# Altium footprint library ZMBo Footprint Library.PcbLib: 76 footprints (part 3 of 5)
Each footprint in its own frame and in the unit in brackets; x right, y up, seen from the top. Pads: shape width x height; smd on the part's side, far side on the other; paste and mask are expansions set on the pad; w line width, h text height; cw(c..) or ccw(c..) is an arc to the next point about the centre after c.
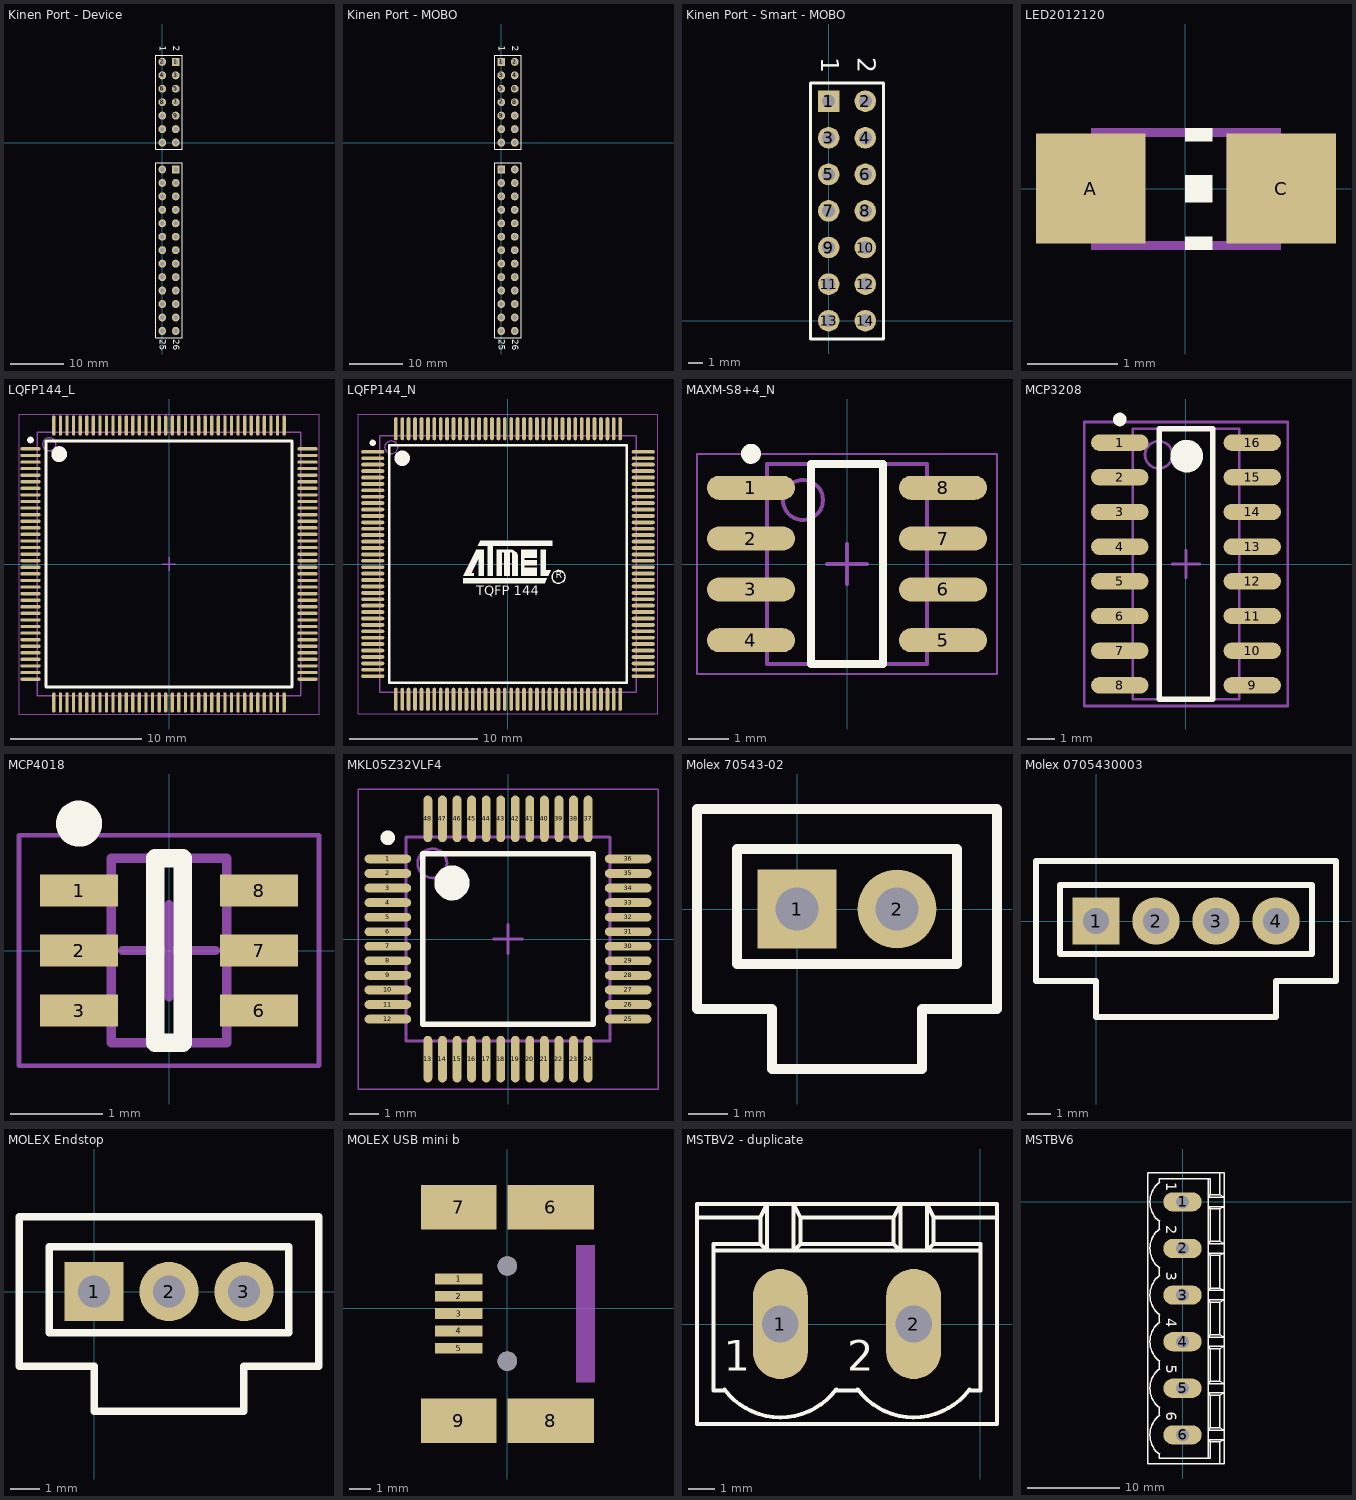
[diagram p2: the footprints below, top view; thin cyan lines are the x and y axes]

## Kinen Port - Device [mm] "Synthetos Kinen Expansion Port Socket"
pads (40):
  rect 1.5x1.5 hole 0.9: 1(2.54,15.24) 15(2.54,-5.08)
  round 1.5 hole 0.9: 2(0,15.24) 3(2.54,12.7) 4(0,12.7) 5(2.54,10.16) 6(0,10.16) 7(2.54,7.62) 8(0,7.62) 9(2.54,5.08) 10(0,5.08) 11(2.54,2.54) 12(0,2.54) 13(2.54,0) 14(0,0) 16(0,-5.08) 17(2.54,-7.62) 18(0,-7.62) 19(2.54,-10.16) 20(0,-10.16) 21(2.54,-12.7) 22(0,-12.7) 23(2.54,-15.24) 24(0,-15.24) 25(2.54,-17.78) 26(0,-17.78) 27(2.54,-20.32) 28(0,-20.32) 29(2.54,-22.86) 30(0,-22.86) 31(2.54,-25.4) 32(0,-25.4) 33(2.54,-27.94) 34(0,-27.94) 35(2.54,-30.48) 36(0,-30.48) 37(2.54,-33.02) 38(0,-33.02) 39(2.54,-35.56) 40(0,-35.56)
Top Overlay:
  lines w0.2: -1.27,-36.83 -1.27,-3.81 3.81,-3.81 3.81,-36.83 -1.27,-36.83 ; -1.27,-1.27 -1.27,16.51 3.81,16.51 3.81,-1.27 -1.27,-1.27
  text "1" at -0.508,18.288 h1.27
  text "2" at 2.032,18.288 h1.27
  text "26" at 2.032,-37.084 h1.27
  text "25" at -0.508,-37.084 h1.27

## Kinen Port - MOBO [mm] "Synthetos Kinen Expansion Port Socket"
pads (40):
  rect 1.5x1.5 hole 0.9: 1(0,15.24) 15(0,-5.08)
  round 1.5 hole 0.9: 2(2.54,15.24) 3(0,12.7) 4(2.54,12.7) 5(0,10.16) 6(2.54,10.16) 7(0,7.62) 8(2.54,7.62) 9(0,5.08) 10(2.54,5.08) 11(0,2.54) 12(2.54,2.54) 13(0,0) 14(2.54,0) 16(2.54,-5.08) 17(0,-7.62) 18(2.54,-7.62) 19(0,-10.16) 20(2.54,-10.16) 21(0,-12.7) 22(2.54,-12.7) 23(0,-15.24) 24(2.54,-15.24) 25(0,-17.78) 26(2.54,-17.78) 27(0,-20.32) 28(2.54,-20.32) 29(0,-22.86) 30(2.54,-22.86) 31(0,-25.4) 32(2.54,-25.4) 33(0,-27.94) 34(2.54,-27.94) 35(0,-30.48) 36(2.54,-30.48) 37(0,-33.02) 38(2.54,-33.02) 39(0,-35.56) 40(2.54,-35.56)
Top Overlay:
  lines w0.2: -1.27,-36.83 -1.27,-3.81 3.81,-3.81 3.81,-36.83 -1.27,-36.83 ; -1.27,-1.27 -1.27,16.51 3.81,16.51 3.81,-1.27 -1.27,-1.27
  text "1" at -0.508,18.288 h1.27
  text "2" at 2.032,18.288 h1.27
  text "26" at 2.032,-37.084 h1.27
  text "25" at -0.508,-37.084 h1.27

## Kinen Port - Smart - MOBO [mm]
pads (14):
  rect 1.5x1.5 hole 0.9: 1(0,15.24)
  round 1.5 hole 0.9: 2(2.54,15.24) 3(0,12.7) 4(2.54,12.7) 5(0,10.16) 6(2.54,10.16) 7(0,7.62) 8(2.54,7.62) 9(0,5.08) 10(2.54,5.08) 11(0,2.54) 12(2.54,2.54) 13(0,0) 14(2.54,0)
Top Overlay:
  lines w0.2: -1.27,-1.27 -1.27,16.51 3.81,16.51 3.81,-1.27 -1.27,-1.27
  text "1" at -0.508,18.288 h1.27
  text "2" at 2.032,18.288 h1.27

## LED2012120 [mil]
pads (2):
  rect 48x48 smd: A(-41.34,0) C(42,0)
Top Overlay:
  region: 0,26.57 0,20.67 12,20.67 12,26.57
  region: 0,-21 0,-27 12,-27 12,-21
  region: 0,5.9 0,-6 12,-6 12,5.9
Mechanical 8:
  region: 18,26.58 18,-27 42,-27 42,26.58
  region: -41.34,26.58 -41.34,-27 -17.72,-27 -17.72,26.57
  lines w4: -18.7,-25 18,-25 ; -17.72,24.61 18,24.61
3D body: height 15.75, standoff 0, extent 20,-10 35,10
3D body: height 27.56, standoff 0, extent -30,-25 30,25
3D body: height 11.81, standoff 0, extent -50,-25 50,25

## LQFP144_L [mm] "Thin QFP, 144-Leads, Body 20x20mm, Pitch 0.5mm, IPC High Density"
height 1.6
pads (144):
  oval 1.55x0.25 smd: 1(-10.525,8.75) 2(-10.525,8.25) 3(-10.525,7.75) 4(-10.525,7.25) 5(-10.525,6.75) 6(-10.525,6.25) 7(-10.525,5.75) 8(-10.525,5.25) 9(-10.525,4.75) 10(-10.525,4.25) 11(-10.525,3.75) 12(-10.525,3.25) 13(-10.525,2.75) 14(-10.525,2.25) 15(-10.525,1.75) 16(-10.525,1.25) 17(-10.525,0.75) 18(-10.525,0.25) 19(-10.525,-0.25) 20(-10.525,-0.75) 21(-10.525,-1.25) 22(-10.525,-1.75) 23(-10.525,-2.25) 24(-10.525,-2.75) 25(-10.525,-3.25) 26(-10.525,-3.75) 27(-10.525,-4.25) 28(-10.525,-4.75) 29(-10.525,-5.25) 30(-10.525,-5.75) 31(-10.525,-6.25) 32(-10.525,-6.75) 33(-10.525,-7.25) 34(-10.525,-7.75) 35(-10.525,-8.25) 36(-10.525,-8.75) 73(10.525,-8.75) 74(10.525,-8.25) 75(10.525,-7.75) 76(10.525,-7.25) 77(10.525,-6.75) 78(10.525,-6.25) 79(10.525,-5.75) 80(10.525,-5.25) 81(10.525,-4.75) 82(10.525,-4.25) 83(10.525,-3.75) 84(10.525,-3.25) 85(10.525,-2.75) 86(10.525,-2.25) 87(10.525,-1.75) 88(10.525,-1.25) 89(10.525,-0.75) 90(10.525,-0.25) 91(10.525,0.25) 92(10.525,0.75) 93(10.525,1.25) 94(10.525,1.75) 95(10.525,2.25) 96(10.525,2.75) 97(10.525,3.25) 98(10.525,3.75) 99(10.525,4.25) 100(10.525,4.75) 101(10.525,5.25) 102(10.525,5.75) 103(10.525,6.25) 104(10.525,6.75) 105(10.525,7.25) 106(10.525,7.75) 107(10.525,8.25) 108(10.525,8.75)
  oval 0.25x1.55 smd: 37(-8.75,-10.525) 38(-8.25,-10.525) 39(-7.75,-10.525) 40(-7.25,-10.525) 41(-6.75,-10.525) 42(-6.25,-10.525) 43(-5.75,-10.525) 44(-5.25,-10.525) 45(-4.75,-10.525) 46(-4.25,-10.525) 47(-3.75,-10.525) 48(-3.25,-10.525) 49(-2.75,-10.525) 50(-2.25,-10.525) 51(-1.75,-10.525) 52(-1.25,-10.525) 53(-0.75,-10.525) 54(-0.25,-10.525) 55(0.25,-10.525) 56(0.75,-10.525) 57(1.25,-10.525) 58(1.75,-10.525) 59(2.25,-10.525) 60(2.75,-10.525) 61(3.25,-10.525) 62(3.75,-10.525) 63(4.25,-10.525) 64(4.75,-10.525) 65(5.25,-10.525) 66(5.75,-10.525) 67(6.25,-10.525) 68(6.75,-10.525) 69(7.25,-10.525) 70(7.75,-10.525) 71(8.25,-10.525) 72(8.75,-10.525) 109(8.75,10.525) 110(8.25,10.525) 111(7.75,10.525) 112(7.25,10.525) 113(6.75,10.525) 114(6.25,10.525) 115(5.75,10.525) 116(5.25,10.525) 117(4.75,10.525) 118(4.25,10.525) 119(3.75,10.525) 120(3.25,10.525) 121(2.75,10.525) 122(2.25,10.525) 123(1.75,10.525) 124(1.25,10.525) 125(0.75,10.525) 126(0.25,10.525) 127(-0.25,10.525) 128(-0.75,10.525) 129(-1.25,10.525) 130(-1.75,10.525) 131(-2.25,10.525) 132(-2.75,10.525) 133(-3.25,10.525) 134(-3.75,10.525) 135(-4.25,10.525) 136(-4.75,10.525) 137(-5.25,10.525) 138(-5.75,10.525) 139(-6.25,10.525) 140(-6.75,10.525) 141(-7.25,10.525) 142(-7.75,10.525) 143(-8.25,10.525) 144(-8.75,10.525)
Top Overlay:
  circle w0.25: c-10.525,9.425 r0.125
  circle w0.6: c-8.35,8.35 r0.3
  lines w0.2: -9.35,-9.35 -9.35,9.35 9.35,9.35 9.35,-9.35 -9.35,-9.35
Mechanical 13:
  circle w0.1: c-9.1,9.1 r0.5
  lines w0.1: -10,-10 -10,10 10,10 10,-10 -10,-10
Mechanical 15:
  lines w0.05: -11.4,-11.4 -11.4,11.4 11.4,11.4 11.4,-11.4 -11.4,-11.4
  lines w0.1: -0.5,0 0.5,0 ; 0,-0.5 0,0.5
3D body: height 1.6, standoff 0, extent -10,-10 10,10

## LQFP144_N [mm] "Thin QFP, 144-Leads, Body 20x20mm, Pitch 0.5mm, IPC Medium Density"
height 1.6
pads (144):
  oval 1.8x0.3 smd: 1(-10.55,8.75) 2(-10.55,8.25) 3(-10.55,7.75) 4(-10.55,7.25) 5(-10.55,6.75) 6(-10.55,6.25) 7(-10.55,5.75) 8(-10.55,5.25) 9(-10.55,4.75) 10(-10.55,4.25) 11(-10.55,3.75) 12(-10.55,3.25) 13(-10.55,2.75) 14(-10.55,2.25) 15(-10.55,1.75) 16(-10.55,1.25) 17(-10.55,0.75) 18(-10.55,0.25) 19(-10.55,-0.25) 20(-10.55,-0.75) 21(-10.55,-1.25) 22(-10.55,-1.75) 23(-10.55,-2.25) 24(-10.55,-2.75) 25(-10.55,-3.25) 26(-10.55,-3.75) 27(-10.55,-4.25) 28(-10.55,-4.75) 29(-10.55,-5.25) 30(-10.55,-5.75) 31(-10.55,-6.25) 32(-10.55,-6.75) 33(-10.55,-7.25) 34(-10.55,-7.75) 35(-10.55,-8.25) 36(-10.55,-8.75) 73(10.55,-8.75) 74(10.55,-8.25) 75(10.55,-7.75) 76(10.55,-7.25) 77(10.55,-6.75) 78(10.55,-6.25) 79(10.55,-5.75) 80(10.55,-5.25) 81(10.55,-4.75) 82(10.55,-4.25) 83(10.55,-3.75) 84(10.55,-3.25) 85(10.55,-2.75) 86(10.55,-2.25) 87(10.55,-1.75) 88(10.55,-1.25) 89(10.55,-0.75) 90(10.55,-0.25) 91(10.55,0.25) 92(10.55,0.75) 93(10.55,1.25) 94(10.55,1.75) 95(10.55,2.25) 96(10.55,2.75) 97(10.55,3.25) 98(10.55,3.75) 99(10.55,4.25) 100(10.55,4.75) 101(10.55,5.25) 102(10.55,5.75) 103(10.55,6.25) 104(10.55,6.75) 105(10.55,7.25) 106(10.55,7.75) 107(10.55,8.25) 108(10.55,8.75)
  oval 0.3x1.8 smd: 37(-8.75,-10.55) 38(-8.25,-10.55) 39(-7.75,-10.55) 40(-7.25,-10.55) 41(-6.75,-10.55) 42(-6.25,-10.55) 43(-5.75,-10.55) 44(-5.25,-10.55) 45(-4.75,-10.55) 46(-4.25,-10.55) 47(-3.75,-10.55) 48(-3.25,-10.55) 49(-2.75,-10.55) 50(-2.25,-10.55) 51(-1.75,-10.55) 52(-1.25,-10.55) 53(-0.75,-10.55) 54(-0.25,-10.55) 55(0.25,-10.55) 56(0.75,-10.55) 57(1.25,-10.55) 58(1.75,-10.55) 59(2.25,-10.55) 60(2.75,-10.55) 61(3.25,-10.55) 62(3.75,-10.55) 63(4.25,-10.55) 64(4.75,-10.55) 65(5.25,-10.55) 66(5.75,-10.55) 67(6.25,-10.55) 68(6.75,-10.55) 69(7.25,-10.55) 70(7.75,-10.55) 71(8.25,-10.55) 72(8.75,-10.55) 109(8.75,10.55) 110(8.25,10.55) 111(7.75,10.55) 112(7.25,10.55) 113(6.75,10.55) 114(6.25,10.55) 115(5.75,10.55) 116(5.25,10.55) 117(4.75,10.55) 118(4.25,10.55) 119(3.75,10.55) 120(3.25,10.55) 121(2.75,10.55) 122(2.25,10.55) 123(1.75,10.55) 124(1.25,10.55) 125(0.75,10.55) 126(0.25,10.55) 127(-0.25,10.55) 128(-0.75,10.55) 129(-1.25,10.55) 130(-1.75,10.55) 131(-2.25,10.55) 132(-2.75,10.55) 133(-3.25,10.55) 134(-3.75,10.55) 135(-4.25,10.55) 136(-4.75,10.55) 137(-5.25,10.55) 138(-5.75,10.55) 139(-6.25,10.55) 140(-6.75,10.55) 141(-7.25,10.55) 142(-7.75,10.55) 143(-8.25,10.55) 144(-8.75,10.55)
Top Overlay:
  circle w0.102: c3.944,-1.006 r0.508
  circle w0.25: c-10.55,9.45 r0.125
  circle w0.6: c-8.25,8.25 r0.3
  region: -3.473,-0.907 -2.473,1.11 -1.873,1.11 -1.873,-0.907 -2.273,-0.907 -2.273,0.5 -2.873,-0.706 -2.673,-0.706 -2.673,-0.907
  region: -2.373,1.415 -2.173,1.796 3.436,1.796 3.436,1.415 -1.173,1.415 -1.173,-0.907 -1.573,-0.907 -1.573,1.415
  region: -0.873,1.11 -0.873,-0.907 -0.473,-0.907 -0.473,0.907 -0.273,0.907 -0.273,-0.907 0.127,-0.907 0.127,0.907 0.327,0.907 0.327,-0.907 0.744,-0.907 0.744,0.703 0.642,0.907 0.54,1.008 0.327,1.11
  region: 1.048,1.11 1.048,-0.907 2.242,-0.907 2.242,-0.307 1.252,-0.307 1.252,-0.084 2.242,-0.084 2.242,0.297 1.252,0.297 1.252,0.5 2.242,0.5 2.242,1.11
  region: 2.547,1.11 2.547,-0.907 3.131,-0.907 3.334,-0.506 2.928,-0.506 2.928,1.11
  region: -3.473,-1.106 -3.473,-1.506 2.852,-1.506 3.03,-1.106
  lines w0.2: -9.25,-9.25 -9.25,9.25 9.25,9.25 9.25,-9.25 -9.25,-9.25
  text "TQFP 144" at -2.473,-2.717 h1.26
  text "R" at 3.741,-1.307 h0.94
Mechanical 13:
  circle w0.1: c-9.1,9.1 r0.5
  lines w0.1: -10,-10 -10,10 10,10 10,-10 -10,-10
Mechanical 15:
  lines w0.05: -11.7,-11.7 -11.7,11.7 11.7,11.7 11.7,-11.7 -11.7,-11.7
  lines w0.1: -0.5,0 0.5,0 ; 0,-0.5 0,0.5
3D body: height 1.6, standoff 0, extent -10,-10 10,10

## MAXM-S8+4_N [mm] "SOIC, 8-Leads, Body 4.9x3.9mm, Pitch 1.27mm, IPC Medium Density"
height 1.75
pads (8):
  oval 2.2x0.6 smd: 1(-2.4,1.905) 2(-2.4,0.635) 3(-2.4,-0.635) 4(-2.4,-1.905) 5(2.4,-1.905) 6(2.4,-0.635) 7(2.4,0.635) 8(2.4,1.905)
Top Overlay:
  circle w0.25: c-2.4,2.755 r0.125
  lines w0.2: -0.9,-2.5 -0.9,2.5 0.9,2.5 0.9,-2.5 -0.9,-2.5
Mechanical 13:
  circle w0.1: c-1.1,1.6 r0.5
  lines w0.1: -2,-2.5 -2,2.5 2,2.5 2,-2.5 -2,-2.5
Mechanical 15:
  lines w0.05: -3.75,-2.75 -3.75,2.75 3.75,2.75 3.75,-2.75 -3.75,-2.75
  lines w0.1: -0.5,0 0.5,0 ; 0,-0.5 0,0.5
3D body: height 1.75, standoff 0.1, extent -2,-2.5 2,2.5

## MCP3208 [mm] "MCP3208 8 Channel ADC"
height 1.25
pads (16):
  oval 2.1x0.6 smd: 1(-2.425,4.445) 2(-2.425,3.175) 3(-2.425,1.905) 4(-2.425,0.635) 5(-2.425,-0.635) 6(-2.425,-1.905) 7(-2.425,-3.175) 8(-2.425,-4.445) 9(2.425,-4.445) 10(2.425,-3.175) 11(2.425,-1.905) 12(2.425,-0.635) 13(2.425,0.635) 14(2.425,1.905) 15(2.425,3.175) 16(2.425,4.445)
Top Overlay:
  circle w0.6: c0.025,3.95 r0.3
  circle w0.25: c-2.425,5.295 r0.125
  lines w0.2: -0.975,-4.95 0.975,-4.95 0.975,4.95 -0.975,4.95 -0.975,-4.95
Mechanical 13:
  circle w0.1: c-1,4 r0.5
  lines w0.1: -1.95,-4.95 1.95,-4.95 1.95,4.95 -1.95,4.95 -1.95,-4.95
Mechanical 15:
  lines w0.1: -0.5,0 0.5,0 ; 0,-0.5 0,0.5 ; -3.725,-5.2 3.725,-5.2 3.725,5.2 -3.725,5.2 -3.725,-5.2
3D body: height 1.25, standoff 0.25, extent -1.95,-4.95 1.95,4.95

## MCP4018 [mm] "SOT23, 6-Leads, Body 1.93x2.10mm, Pitch 0.65mm, IPC Medium Density"
height 1.1
pads (6):
  rect 0.85x0.35 smd: 1(-0.975,0.65) 2(-0.975,0) 3(-0.975,-0.65) 6(0.975,-0.65) 7(0.975,0) 8(0.975,0.65)
Top Overlay:
  circle w0.25: c-0.975,1.375 r0.125
  lines w0.2: -0.15,-1 -0.15,1 0.15,1 0.15,-1 -0.15,-1
Mechanical 13:
  lines w0.1: -0.625,-1 0.625,-1 0.625,1 -0.625,1 -0.625,-1
Mechanical 15:
  lines w0.05: -1.625,-1.25 1.625,-1.25 1.625,1.25 -1.625,1.25 -1.625,-1.25
  lines w0.1: -0.5,0 0.5,0 ; 0,-0.5 0,0.5
3D body: height 1.1, standoff 0, extent -0.625,-1 0.625,1

## MKL05Z32VLF4 [mm] "TSQFP, 48-Leads, Body 7.00x7.00mm, Pitch 0.50mm, IPC Medium Density"
height 1.6
pads (48):
  oval 1.6x0.3 smd: 1(-4.125,2.75) 2(-4.125,2.25) 3(-4.125,1.75) 4(-4.125,1.25) 5(-4.125,0.75) 6(-4.125,0.25) 7(-4.125,-0.25) 8(-4.125,-0.75) 9(-4.125,-1.25) 10(-4.125,-1.75) 11(-4.125,-2.25) 12(-4.125,-2.75) 25(4.125,-2.75) 26(4.125,-2.25) 27(4.125,-1.75) 28(4.125,-1.25) 29(4.125,-0.75) 30(4.125,-0.25) 31(4.125,0.25) 32(4.125,0.75) 33(4.125,1.25) 34(4.125,1.75) 35(4.125,2.25) 36(4.125,2.75)
  oval 0.3x1.6 smd: 13(-2.75,-4.125) 14(-2.25,-4.125) 15(-1.75,-4.125) 16(-1.25,-4.125) 17(-0.75,-4.125) 18(-0.25,-4.125) 19(0.25,-4.125) 20(0.75,-4.125) 21(1.25,-4.125) 22(1.75,-4.125) 23(2.25,-4.125) 24(2.75,-4.125) 37(2.75,4.125) 38(2.25,4.125) 39(1.75,4.125) 40(1.25,4.125) 41(0.75,4.125) 42(0.25,4.125) 43(-0.25,4.125) 44(-0.75,4.125) 45(-1.25,4.125) 46(-1.75,4.125) 47(-2.25,4.125) 48(-2.75,4.125)
Top Overlay:
  circle w0.6: c-1.925,1.925 r0.3
  circle w0.25: c-4.125,3.475 r0.125
  lines w0.2: -2.925,-2.925 2.925,-2.925 2.925,2.925 -2.925,2.925 -2.925,-2.925
Mechanical 13:
  circle w0.1: c-2.6,2.6 r0.5
  lines w0.1: -3.5,-3.5 3.5,-3.5 3.5,3.5 -3.5,3.5 -3.5,-3.5
Mechanical 15:
  lines w0.05: -5.15,-5.15 5.15,-5.15 5.15,5.15 -5.15,5.15 -5.15,-5.15
  lines w0.1: -0.5,0 0.5,0 ; 0,-0.5 0,0.5
3D body: height 1.6, standoff 0.05, extent -3.5,-3.5 3.5,3.5

## Molex 70543-02 [mm]
pads (2):
  rect 2x2 hole 1.09: 1(0,0)
  round 2 hole 1.09: 2(2.54,0)
Top Overlay:
  lines w0.254: -2.54,-2.54 -0.635,-2.54 -0.635,-4.064 3.175,-4.064 3.175,-2.54 5.08,-2.54 5.08,2.54 -2.54,2.54 -2.54,-2.54 ; -1.524,-1.397 -1.397,-1.397 4.064,-1.397 4.064,1.524 -1.524,1.524 -1.524,-1.27 -1.524,-1.397

## Molex 0705430003 [mm] "4 pin connector"
pads (4):
  rect 2x2 hole 1.09: 1(0,0)
  round 2 hole 1.09: 2(2.54,0) 3(5.08,0) 4(7.62,0)
Top Overlay:
  lines w0.254: -2.54,-2.54 -2.54,2.54 10.16,2.54 10.16,-2.54 7.62,-2.54 7.62,-4.064 0,-4.064 0,-2.54 -2.54,-2.54 ; -1.524,-1.397 -1.524,-1.27 -1.524,1.524 9.144,1.524 9.144,-1.397 -1.397,-1.397 -1.524,-1.397

## MOLEX Endstop [mm]
pads (3):
  rect 2x2 hole 1.09: 1(0,0)
  round 2 hole 1.09: 2(2.54,0) 3(5.08,0)
Top Overlay:
  lines w0.254: -2.54,-2.54 0,-2.54 0,-4.064 5.08,-4.064 5.08,-2.54 7.62,-2.54 7.62,2.54 -2.54,2.54 -2.54,-2.54 ; -1.524,-1.397 -1.397,-1.397 6.604,-1.397 6.604,1.524 -1.524,1.524 -1.524,-1.27 -1.524,-1.397

## MOLEX USB mini b [mm]
pads (11):
  rect 2.2x0.5 smd: 1(-2.25,1.346) 2(-2.25,0.546) 3(-2.25,-0.254) 4(-2.25,-1.054) 5(-2.25,-1.854)
  rect 4x2.05 smd: 6(2,4.662) 8(2,-5.207)
  rect 3.5x2.05 smd: 7(-2.25,4.662) 9(-2.25,-5.207)
  round 0.9 hole 0.9: ""(0,-2.454) ""(0,1.946)
Mechanical 1:
  region: 4.064,2.921 3.175,2.921 3.175,-3.429 4.064,-3.429
3D body: height 3.9, standoff -1.05, extent -3.048,-5.204 5.952,4.696

## MSTBV2 - duplicate [mil]
pads (2):
  oval 82.5x165 hole 55: 1(-300,0) 2(-100,0)
Top Overlay:
  lines w6: -384,-98 ccw(c-300,-35) -300,-140 ccw(c-300,-35) -216,-98 ; -383,-100 -400,-100 -400,110 ; -215,-100 -185,-100 ; -184,-98 ccw(c-100,-35) -100,-140 ccw(c-100,-35) -16,-98 ; -17,-100 0,-100 0,110 ; -425,160 -425,180 -320,180 ; -425,160 -425,-150 25,-150 25,160 ; -425,160 -330,160 ; -400,110 -400,120 -330,120 ; -400,110 -320,110 ; -330,120 -330,160 ; -330,120 -320,110 ; -330,160 -320,180 ; -320,110 -280,110 ; -320,110 -320,180 ; -320,180 -280,180 ; -280,110 -120,110 ; -280,110 -280,180 ; -280,110 -270,120 ; -280,180 -120,180 ; -280,180 -270,160 ; -270,120 -130,120 ; -270,120 -270,160 ; -270,160 -130,160 ; -130,120 -130,160 ; -130,120 -120,110 ; -130,160 -120,180 ; -120,110 -80,110 ; -120,110 -120,180 ; -120,180 -80,180 ; -80,110 -70,120 ; -80,110 0,110 ; -80,110 -80,180 ; -80,110 -70,120 ; -80,180 -70,160 ; -80,180 25,180 25,160 ; -80,180 -70,160 ; -70,120 -70,160 ; -70,120 0,120 0,110 ; -70,160 25,160
  text "1" at -385,-85 h77.5
  text "2" at -200,-85 h77.5
Mechanical 16:
  lines w6: -325,-25 -325,25 ; -325,-25 -275,-25 ; -325,-25 -275,25 ; -325,25 -275,25 ; -325,25 -275,-25 ; -275,-25 -275,25 ; -125,-25 -75,-25 ; -125,-25 -125,25 ; -125,-25 -75,25 ; -125,25 -75,25 ; -125,25 -75,-25 ; -75,-25 -75,25 ; -75,-25 -75,25
3D body: height 472.44, standoff 0, extent -425,-150 25,180

## MSTBV6 [mil]
pads (6):
  oval 165x82.5 hole 55: 1(0,0) 2(0,-200) 3(0,-400) 4(0,-600) 5(0,-800) 6(0,-1000)
Top Overlay:
  lines w6: -100,-1083 -100,-1100 110,-1100 ; -100,-915 -100,-885 ; -100,-715 -100,-685 ; -100,-515 -100,-485 ; -100,-315 -100,-285 ; -100,-115 -100,-85 ; -100,83 -100,100 110,100 ; -98,-1084 cw(c-35,-1000) -140,-1000 cw(c-35,-1000) -98,-916 ; -98,-884 cw(c-35,-800) -140,-800 cw(c-35,-800) -98,-716 ; -98,-684 cw(c-35,-600) -140,-600 cw(c-35,-600) -98,-516 ; -98,-484 cw(c-35,-400) -140,-400 cw(c-35,-400) -98,-316 ; -98,-284 cw(c-35,-200) -140,-200 cw(c-35,-200) -98,-116 ; -98,-84 cw(c-35,0) -140,0 cw(c-35,0) -98,84 ; 110,-1100 110,-1020 ; 110,-1100 120,-1100 120,-1030 ; 110,-1020 110,-980 ; 110,-1020 180,-1020 ; 110,-1020 120,-1030 ; 110,-980 110,-820 ; 110,-980 180,-980 ; 110,-980 120,-970 ; 110,-820 110,-780 ; 110,-820 180,-820 ; 110,-820 120,-830 ; 110,-780 110,-620 ; 110,-780 180,-780 ; 110,-780 120,-770 ; 110,-620 110,-580 ; 110,-620 180,-620 ; 110,-620 120,-630 ; 110,-580 120,-570 ; 110,-580 180,-580 ; 110,-580 110,-420 ; 110,-420 120,-430 ; 110,-420 180,-420 ; 110,-420 110,-380 ; 110,-380 120,-370 ; 110,-380 180,-380 ; 110,-380 110,-220 ; 110,-220 120,-230 ; 110,-220 180,-220 ; 110,-220 110,-180 ; 110,-180 120,-170 ; 110,-180 180,-180 ; 110,-180 110,-20 ; 110,-20 120,-30 ; 110,-20 180,-20 ; 110,-20 110,20 ; 110,20 120,30 ; 110,20 180,20 ; 110,20 110,100 ; 110,100 120,100 120,30 ; 120,-1030 160,-1030 ; 120,-970 160,-970 ; 120,-970 120,-830 ; 120,-830 160,-830 ; 120,-770 120,-630 ; 120,-770 160,-770 ; 120,-630 160,-630 ; 120,-570 160,-570 ; 120,-570 120,-430 ; 120,-430 160,-430 ; 120,-370 120,-230 ; 120,-370 160,-370 ; 120,-230 160,-230 ; 120,-170 160,-170 ; 120,-170 120,-30 ; 120,-30 160,-30 ; 120,30 160,30 ; 160,-1125 160,-1030 ; 160,-1125 180,-1125 180,-1020 ; 160,-1125 -150,-1125 -150,-840 -150,125 160,125 ; 160,-1030 180,-1020 ; 160,-970 160,-830 ; 160,-970 180,-980 ; 160,-830 180,-820 ; 160,-770 160,-630 ; 160,-770 180,-780 ; 160,-630 180,-620 ; 160,-570 180,-580 ; 160,-570 160,-430 ; 160,-430 180,-420 ; 160,-370 180,-380 ; 160,-370 160,-230 ; 160,-230 180,-220 ; 160,-170 180,-180 ; 160,-170 160,-30 ; 160,-30 180,-20 ; 160,30 180,20 ; 160,30 160,125 ; 160,125 180,125 180,20 ; 180,-1020 180,-980 ; 180,-980 180,-820 ; 180,-820 180,-780 ; 180,-780 180,-620 ; 180,-620 180,-580 ; 180,-580 180,-420 ; 180,-420 180,-380 ; 180,-380 180,-220 ; 180,-220 180,-180 ; 180,-180 180,-20 ; 180,-20 180,20
  text "4" at -85,-500 h77.5
  text "3" at -85,-300 h77.5
  text "2" at -85,-100 h77.5
  text "1" at -85,85 h77.5
  text "5" at -85,-700 h77.5
  text "6" at -85,-900 h77.5
Mechanical 16:
  lines w6: -25,-1025 -25,-975 ; -25,-1025 25,-1025 ; -25,-1025 25,-975 ; -25,-975 25,-975 ; -25,-975 25,-1025 ; -25,-825 -25,-775 ; -25,-825 25,-825 ; -25,-825 25,-775 ; -25,-775 25,-775 ; -25,-775 25,-825 ; -25,-625 -25,-575 ; -25,-625 25,-575 ; -25,-625 25,-625 ; -25,-575 25,-625 ; -25,-575 25,-575 ; -25,-425 25,-375 ; -25,-425 25,-425 ; -25,-425 -25,-375 ; -25,-375 25,-425 ; -25,-375 25,-375 ; -25,-225 25,-175 ; -25,-225 25,-225 ; -25,-225 -25,-175 ; -25,-175 25,-225 ; -25,-175 25,-175 ; -25,-25 25,25 ; -25,-25 25,-25 ; -25,-25 -25,25 ; -25,25 25,-25 ; -25,25 25,25 ; 25,-1025 25,-975 ; 25,-825 25,-775 ; 25,-625 25,-575 ; 25,-425 25,-375 ; 25,-225 25,-175 ; 25,-25 25,25
3D body: height 472.44, standoff 0, extent -150,-1125 180,125